# Altium footprint library IDlab.PcbLib: 5 footprints
Each footprint in its own frame and in the unit in brackets; x right, y up, seen from the top. Pads: shape width x height; smd on the part's side, far side on the other; paste and mask are expansions set on the pad; w line width, h text height; cw(c..) or ccw(c..) is an arc to the next point about the centre after c.
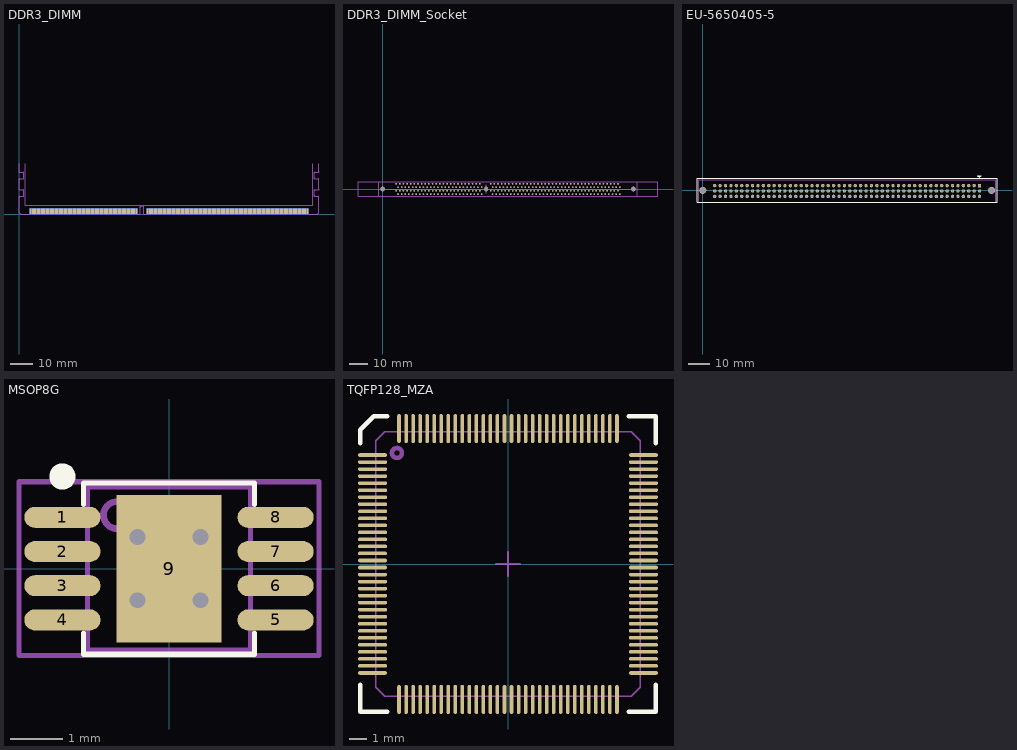
[diagram p0: the footprints below, top view; thin cyan lines are the x and y axes]

## DDR3_DIMM [mm] "DDR3 DIMM module pin setting and layout"
height 1.27
pads (240):
  rect 0.8x2.5 smd paste-5: 1(5.175,1.45) 2(6.175,1.45) 3(7.175,1.45) 4(8.175,1.45) 5(9.175,1.45) 6(10.175,1.45) 7(11.175,1.45) 8(12.175,1.45) 9(13.175,1.45) 10(14.175,1.45) 11(15.175,1.45) 12(16.175,1.45) 13(17.175,1.45) 14(18.175,1.45) 15(19.175,1.45) 16(20.175,1.45) 17(21.175,1.45) 18(22.175,1.45) 19(23.175,1.45) 20(24.175,1.45) 21(25.175,1.45) 22(26.175,1.45) 23(27.175,1.45) 24(28.175,1.45) 25(29.175,1.45) 26(30.175,1.45) 27(31.175,1.45) 28(32.175,1.45) 29(33.175,1.45) 30(34.175,1.45) 31(35.175,1.45) 32(36.175,1.45) 33(37.175,1.45) 34(38.175,1.45) 35(39.175,1.45) 36(40.175,1.45) 37(41.175,1.45) 38(42.175,1.45) 39(43.175,1.45) 40(44.175,1.45) 41(45.175,1.45) 42(46.175,1.45) 43(47.175,1.45) 44(48.175,1.45) 45(49.175,1.45) 46(50.175,1.45) 47(51.175,1.45) 48(52.175,1.45) 49(57.175,1.45) 50(58.175,1.45) 51(59.175,1.45) 52(60.175,1.45) 53(61.175,1.45) 54(62.175,1.45) 55(63.175,1.45) 56(64.175,1.45) 57(65.175,1.45) 58(66.175,1.45) 59(67.175,1.45) 60(68.175,1.45) 61(69.175,1.45) 62(70.175,1.45) 63(71.175,1.45) 64(72.175,1.45) 65(73.175,1.45) 66(74.175,1.45) 67(75.175,1.45) 68(76.175,1.45) 69(77.175,1.45) 70(78.175,1.45) 71(79.175,1.45) 72(80.175,1.45) 73(81.175,1.45) 74(82.175,1.45) 75(83.175,1.45) 76(84.175,1.45) 77(85.175,1.45) 78(86.175,1.45) 79(87.175,1.45) 80(88.175,1.45) 81(89.175,1.45) 82(90.175,1.45) 83(91.175,1.45) 84(92.175,1.45) 85(93.175,1.45) 86(94.175,1.45) 87(95.175,1.45) 88(96.175,1.45) 89(97.175,1.45) 90(98.175,1.45) 91(99.175,1.45) 92(100.175,1.45) 93(101.175,1.45) 94(102.175,1.45) 95(103.175,1.45) 96(104.175,1.45) 97(105.175,1.45) 98(106.175,1.45) 99(107.175,1.45) 100(108.175,1.45) 101(109.175,1.45) 102(110.175,1.45) 103(111.175,1.45) 104(112.175,1.45) 105(113.175,1.45) 106(114.175,1.45) 107(115.175,1.45) 108(116.175,1.45) 109(117.175,1.45) 110(118.175,1.45) 111(119.175,1.45) 112(120.175,1.45) 113(121.175,1.45) 114(122.175,1.45) 115(123.175,1.45) 116(124.175,1.45) 117(125.175,1.45) 118(126.175,1.45) 119(127.175,1.45) 120(128.175,1.45)
  rect 0.8x2.5 smd far side paste-5: 121(5.175,1.45) 122(6.175,1.45) 123(7.175,1.45) 124(8.175,1.45) 125(9.175,1.45) 126(10.175,1.45) 127(11.175,1.45) 128(12.175,1.45) 129(13.175,1.45) 130(14.175,1.45) 131(15.175,1.45) 132(16.175,1.45) 133(17.175,1.45) 134(18.175,1.45) 135(19.175,1.45) 136(20.175,1.45) 137(21.175,1.45) 138(22.175,1.45) 139(23.175,1.45) 140(24.175,1.45) 141(25.175,1.45) 142(26.175,1.45) 143(27.175,1.45) 144(28.175,1.45) 145(29.175,1.45) 146(30.175,1.45) 147(31.175,1.45) 148(32.175,1.45) 149(33.175,1.45) 150(34.175,1.45) 151(35.175,1.45) 152(36.175,1.45) 153(37.175,1.45) 154(38.175,1.45) 155(39.175,1.45) 156(40.175,1.45) 157(41.175,1.45) 158(42.175,1.45) 159(43.175,1.45) 160(44.175,1.45) 161(45.175,1.45) 162(46.175,1.45) 163(47.175,1.45) 164(48.175,1.45) 165(49.175,1.45) 166(50.175,1.45) 167(51.175,1.45) 168(52.175,1.45) 169(57.175,1.45) 170(58.175,1.45) 171(59.175,1.45) 172(60.175,1.45) 173(61.175,1.45) 174(62.175,1.45) 175(63.175,1.45) 176(64.175,1.45) 177(65.175,1.45) 178(66.175,1.45) 179(67.175,1.45) 180(68.175,1.45) 181(69.175,1.45) 182(70.175,1.45) 183(71.175,1.45) 184(72.175,1.45) 185(73.175,1.45) 186(74.175,1.45) 187(75.175,1.45) 188(76.175,1.45) 189(77.175,1.45) 190(78.175,1.45) 191(79.175,1.45) 192(80.175,1.45) 193(81.175,1.45) 194(82.175,1.45) 195(83.175,1.45) 196(84.175,1.45) 197(85.175,1.45) 198(86.175,1.45) 199(87.175,1.45) 200(88.175,1.45) 201(89.175,1.45) 202(90.175,1.45) 203(91.175,1.45) 204(92.175,1.45) 205(93.175,1.45) 206(94.175,1.45) 207(95.175,1.45) 208(96.175,1.45) 209(97.175,1.45) 210(98.175,1.45) 211(99.175,1.45) 212(100.175,1.45) 213(101.175,1.45) 214(102.175,1.45) 215(103.175,1.45) 216(104.175,1.45) 217(105.175,1.45) 218(106.175,1.45) 219(107.175,1.45) 220(108.175,1.45) 221(109.175,1.45) 222(110.175,1.45) 223(111.175,1.45) 224(112.175,1.45) 225(113.175,1.45) 226(114.175,1.45) 227(115.175,1.45) 228(116.175,1.45) 229(117.175,1.45) 230(118.175,1.45) 231(119.175,1.45) 232(120.175,1.45) 233(121.175,1.45) 234(122.175,1.45) 235(123.175,1.45) 236(124.175,1.45) 237(125.175,1.45) 238(126.175,1.45) 239(127.175,1.45) 240(128.175,1.45)
Top Layer:
  region: 4.975,0.2 5.375,0.2 5.375,0 4.975,0
  region: 5.975,0.2 6.375,0.2 6.375,0 5.975,0
  region: 6.975,0.2 7.375,0.2 7.375,0 6.975,0
  region: 7.975,0.2 8.375,0.2 8.375,0 7.975,0
  region: 8.975,0.2 9.375,0.2 9.375,0 8.975,0
  region: 9.975,0.2 10.375,0.2 10.375,0 9.975,0
  region: 15.975,0.2 16.375,0.2 16.375,0 15.975,0
  region: 14.975,0.2 15.375,0.2 15.375,0 14.975,0
  region: 13.975,0.2 14.375,0.2 14.375,0 13.975,0
  region: 12.975,0.2 13.375,0.2 13.375,0 12.975,0
  region: 11.975,0.2 12.375,0.2 12.375,0 11.975,0
  region: 10.975,0.2 11.375,0.2 11.375,0 10.975,0
  region: 21.975,0.2 22.375,0.2 22.375,0 21.975,0
  region: 20.975,0.2 21.375,0.2 21.375,0 20.975,0
  region: 19.975,0.2 20.375,0.2 20.375,0 19.975,0
  region: 18.975,0.2 19.375,0.2 19.375,0 18.975,0
  region: 17.975,0.2 18.375,0.2 18.375,0 17.975,0
  region: 16.975,0.2 17.375,0.2 17.375,0 16.975,0
  region: 27.975,0.2 28.375,0.2 28.375,0 27.975,0
  region: 26.975,0.2 27.375,0.2 27.375,0 26.975,0
  region: 25.975,0.2 26.375,0.2 26.375,0 25.975,0
  region: 24.975,0.2 25.375,0.2 25.375,0 24.975,0
  region: 23.975,0.2 24.375,0.2 24.375,0 23.975,0
  region: 22.975,0.2 23.375,0.2 23.375,0 22.975,0
  region: 33.975,0.2 34.375,0.2 34.375,0 33.975,0
  region: 32.975,0.2 33.375,0.2 33.375,0 32.975,0
  region: 31.975,0.2 32.375,0.2 32.375,0 31.975,0
  region: 30.975,0.2 31.375,0.2 31.375,0 30.975,0
  region: 29.975,0.2 30.375,0.2 30.375,0 29.975,0
  region: 28.975,0.2 29.375,0.2 29.375,0 28.975,0
  region: 39.975,0.2 40.375,0.2 40.375,0 39.975,0
  region: 38.975,0.2 39.375,0.2 39.375,0 38.975,0
  region: 37.975,0.2 38.375,0.2 38.375,0 37.975,0
  region: 36.975,0.2 37.375,0.2 37.375,0 36.975,0
  region: 35.975,0.2 36.375,0.2 36.375,0 35.975,0
  region: 34.975,0.2 35.375,0.2 35.375,0 34.975,0
  region: 45.975,0.2 46.375,0.2 46.375,0 45.975,0
  region: 44.975,0.2 45.375,0.2 45.375,0 44.975,0
  region: 43.975,0.2 44.375,0.2 44.375,0 43.975,0
  region: 42.975,0.2 43.375,0.2 43.375,0 42.975,0
  region: 41.975,0.2 42.375,0.2 42.375,0 41.975,0
  region: 40.975,0.2 41.375,0.2 41.375,0 40.975,0
  region: 51.975,0.2 52.375,0.2 52.375,0 51.975,0
  region: 50.975,0.2 51.375,0.2 51.375,0 50.975,0
  region: 49.975,0.2 50.375,0.2 50.375,0 49.975,0
  region: 48.975,0.2 49.375,0.2 49.375,0 48.975,0
  region: 47.975,0.2 48.375,0.2 48.375,0 47.975,0
  region: 46.975,0.2 47.375,0.2 47.375,0 46.975,0
  region: 61.975,0.2 62.375,0.2 62.375,0 61.975,0
  region: 60.975,0.2 61.375,0.2 61.375,0 60.975,0
  region: 59.975,0.2 60.375,0.2 60.375,0 59.975,0
  region: 58.975,0.2 59.375,0.2 59.375,0 58.975,0
  region: 57.975,0.2 58.375,0.2 58.375,0 57.975,0
  region: 56.975,0.2 57.375,0.2 57.375,0 56.975,0
  region: 67.975,0.2 68.375,0.2 68.375,0 67.975,0
  region: 66.975,0.2 67.375,0.2 67.375,0 66.975,0
  region: 65.975,0.2 66.375,0.2 66.375,0 65.975,0
  region: 64.975,0.2 65.375,0.2 65.375,0 64.975,0
  region: 63.975,0.2 64.375,0.2 64.375,0 63.975,0
  region: 62.975,0.2 63.375,0.2 63.375,0 62.975,0
  region: 73.975,0.2 74.375,0.2 74.375,0 73.975,0
  region: 72.975,0.2 73.375,0.2 73.375,0 72.975,0
  region: 71.975,0.2 72.375,0.2 72.375,0 71.975,0
  region: 70.975,0.2 71.375,0.2 71.375,0 70.975,0
  region: 69.975,0.2 70.375,0.2 70.375,0 69.975,0
  region: 68.975,0.2 69.375,0.2 69.375,0 68.975,0
  region: 79.975,0.2 80.375,0.2 80.375,0 79.975,0
  region: 78.975,0.2 79.375,0.2 79.375,0 78.975,0
  region: 77.975,0.2 78.375,0.2 78.375,0 77.975,0
  region: 76.975,0.2 77.375,0.2 77.375,0 76.975,0
  region: 75.975,0.2 76.375,0.2 76.375,0 75.975,0
  region: 74.975,0.2 75.375,0.2 75.375,0 74.975,0
  region: 85.975,0.2 86.375,0.2 86.375,0 85.975,0
  region: 84.975,0.2 85.375,0.2 85.375,0 84.975,0
  region: 83.975,0.2 84.375,0.2 84.375,0 83.975,0
  region: 82.975,0.2 83.375,0.2 83.375,0 82.975,0
  region: 81.975,0.2 82.375,0.2 82.375,0 81.975,0
  region: 80.975,0.2 81.375,0.2 81.375,0 80.975,0
  region: 91.975,0.2 92.375,0.2 92.375,0 91.975,0
  region: 90.975,0.2 91.375,0.2 91.375,0 90.975,0
  region: 89.975,0.2 90.375,0.2 90.375,0 89.975,0
  region: 88.975,0.2 89.375,0.2 89.375,0 88.975,0
  region: 87.975,0.2 88.375,0.2 88.375,0 87.975,0
  region: 86.975,0.2 87.375,0.2 87.375,0 86.975,0
  region: 97.975,0.2 98.375,0.2 98.375,0 97.975,0
  region: 96.975,0.2 97.375,0.2 97.375,0 96.975,0
  region: 95.975,0.2 96.375,0.2 96.375,0 95.975,0
  region: 94.975,0.2 95.375,0.2 95.375,0 94.975,0
  region: 93.975,0.2 94.375,0.2 94.375,0 93.975,0
  region: 92.975,0.2 93.375,0.2 93.375,0 92.975,0
  region: 103.975,0.2 104.375,0.2 104.375,0 103.975,0
  region: 102.975,0.2 103.375,0.2 103.375,0 102.975,0
  region: 101.975,0.2 102.375,0.2 102.375,0 101.975,0
  region: 100.975,0.2 101.375,0.2 101.375,0 100.975,0
  region: 99.975,0.2 100.375,0.2 100.375,0 99.975,0
  region: 98.975,0.2 99.375,0.2 99.375,0 98.975,0
  region: 109.975,0.2 110.375,0.2 110.375,0 109.975,0
  region: 108.975,0.2 109.375,0.2 109.375,0 108.975,0
  region: 107.975,0.2 108.375,0.2 108.375,0 107.975,0
  region: 106.975,0.2 107.375,0.2 107.375,0 106.975,0
  region: 105.975,0.2 106.375,0.2 106.375,0 105.975,0
  region: 104.975,0.2 105.375,0.2 105.375,0 104.975,0
  region: 115.975,0.2 116.375,0.2 116.375,0 115.975,0
  region: 114.975,0.2 115.375,0.2 115.375,0 114.975,0
  region: 113.975,0.2 114.375,0.2 114.375,0 113.975,0
  region: 112.975,0.2 113.375,0.2 113.375,0 112.975,0
  region: 111.975,0.2 112.375,0.2 112.375,0 111.975,0
  region: 110.975,0.2 111.375,0.2 111.375,0 110.975,0
  region: 121.975,0.2 122.375,0.2 122.375,0 121.975,0
  region: 120.975,0.2 121.375,0.2 121.375,0 120.975,0
  region: 119.975,0.2 120.375,0.2 120.375,0 119.975,0
  region: 118.975,0.2 119.375,0.2 119.375,0 118.975,0
  region: 117.975,0.2 118.375,0.2 118.375,0 117.975,0
  region: 116.975,0.2 117.375,0.2 117.375,0 116.975,0
  region: 127.975,0.2 128.375,0.2 128.375,0 127.975,0
  region: 126.975,0.2 127.375,0.2 127.375,0 126.975,0
  region: 125.975,0.2 126.375,0.2 126.375,0 125.975,0
  region: 124.975,0.2 125.375,0.2 125.375,0 124.975,0
  region: 123.975,0.2 124.375,0.2 124.375,0 123.975,0
  region: 122.975,0.2 123.375,0.2 123.375,0 122.975,0
Bottom Layer:
  region: 45.375,0.2 44.975,0.2 44.975,0 45.375,0
  region: 128.375,0.2 127.975,0.2 127.975,0 128.375,0
  region: 125.375,0.2 124.975,0.2 124.975,0 125.375,0
  region: 124.375,0.2 123.975,0.2 123.975,0 124.375,0
  region: 123.375,0.2 122.975,0.2 122.975,0 123.375,0
  region: 127.375,0.2 126.975,0.2 126.975,0 127.375,0
  region: 126.375,0.2 125.975,0.2 125.975,0 126.375,0
  region: 120.375,0.2 119.975,0.2 119.975,0 120.375,0
  region: 119.375,0.2 118.975,0.2 118.975,0 119.375,0
  region: 118.375,0.2 117.975,0.2 117.975,0 118.375,0
  region: 122.375,0.2 121.975,0.2 121.975,0 122.375,0
  region: 121.375,0.2 120.975,0.2 120.975,0 121.375,0
  region: 115.375,0.2 114.975,0.2 114.975,0 115.375,0
  region: 114.375,0.2 113.975,0.2 113.975,0 114.375,0
  region: 113.375,0.2 112.975,0.2 112.975,0 113.375,0
  region: 117.375,0.2 116.975,0.2 116.975,0 117.375,0
  region: 116.375,0.2 115.975,0.2 115.975,0 116.375,0
  region: 110.375,0.2 109.975,0.2 109.975,0 110.375,0
  region: 109.375,0.2 108.975,0.2 108.975,0 109.375,0
  region: 108.375,0.2 107.975,0.2 107.975,0 108.375,0
  region: 112.375,0.2 111.975,0.2 111.975,0 112.375,0
  region: 111.375,0.2 110.975,0.2 110.975,0 111.375,0
  region: 105.375,0.2 104.975,0.2 104.975,0 105.375,0
  region: 104.375,0.2 103.975,0.2 103.975,0 104.375,0
  region: 103.375,0.2 102.975,0.2 102.975,0 103.375,0
  region: 107.375,0.2 106.975,0.2 106.975,0 107.375,0
  region: 106.375,0.2 105.975,0.2 105.975,0 106.375,0
  region: 100.375,0.2 99.975,0.2 99.975,0 100.375,0
  region: 99.375,0.2 98.975,0.2 98.975,0 99.375,0
  region: 98.375,0.2 97.975,0.2 97.975,0 98.375,0
  region: 102.375,0.2 101.975,0.2 101.975,0 102.375,0
  region: 101.375,0.2 100.975,0.2 100.975,0 101.375,0
  region: 95.375,0.2 94.975,0.2 94.975,0 95.375,0
  region: 94.375,0.2 93.975,0.2 93.975,0 94.375,0
  region: 93.375,0.2 92.975,0.2 92.975,0 93.375,0
  region: 97.375,0.2 96.975,0.2 96.975,0 97.375,0
  region: 96.375,0.2 95.975,0.2 95.975,0 96.375,0
  region: 90.375,0.2 89.975,0.2 89.975,0 90.375,0
  region: 89.375,0.2 88.975,0.2 88.975,0 89.375,0
  region: 88.375,0.2 87.975,0.2 87.975,0 88.375,0
  region: 92.375,0.2 91.975,0.2 91.975,0 92.375,0
  region: 91.375,0.2 90.975,0.2 90.975,0 91.375,0
  region: 85.375,0.2 84.975,0.2 84.975,0 85.375,0
  region: 84.375,0.2 83.975,0.2 83.975,0 84.375,0
  region: 83.375,0.2 82.975,0.2 82.975,0 83.375,0
  region: 87.375,0.2 86.975,0.2 86.975,0 87.375,0
  region: 86.375,0.2 85.975,0.2 85.975,0 86.375,0
  region: 80.375,0.2 79.975,0.2 79.975,0 80.375,0
  region: 79.375,0.2 78.975,0.2 78.975,0 79.375,0
  region: 78.375,0.2 77.975,0.2 77.975,0 78.375,0
  region: 82.375,0.2 81.975,0.2 81.975,0 82.375,0
  region: 81.375,0.2 80.975,0.2 80.975,0 81.375,0
  region: 75.375,0.2 74.975,0.2 74.975,0 75.375,0
  region: 74.375,0.2 73.975,0.2 73.975,0 74.375,0
  region: 73.375,0.2 72.975,0.2 72.975,0 73.375,0
  region: 77.375,0.2 76.975,0.2 76.975,0 77.375,0
  region: 76.375,0.2 75.975,0.2 75.975,0 76.375,0
  region: 70.375,0.2 69.975,0.2 69.975,0 70.375,0
  region: 69.375,0.2 68.975,0.2 68.975,0 69.375,0
  region: 68.375,0.2 67.975,0.2 67.975,0 68.375,0
  region: 72.375,0.2 71.975,0.2 71.975,0 72.375,0
  region: 71.375,0.2 70.975,0.2 70.975,0 71.375,0
  region: 65.375,0.2 64.975,0.2 64.975,0 65.375,0
  region: 64.375,0.2 63.975,0.2 63.975,0 64.375,0
  region: 63.375,0.2 62.975,0.2 62.975,0 63.375,0
  region: 67.375,0.2 66.975,0.2 66.975,0 67.375,0
  region: 66.375,0.2 65.975,0.2 65.975,0 66.375,0
  region: 60.375,0.2 59.975,0.2 59.975,0 60.375,0
  region: 59.375,0.2 58.975,0.2 58.975,0 59.375,0
  region: 58.375,0.2 57.975,0.2 57.975,0 58.375,0
  region: 62.375,0.2 61.975,0.2 61.975,0 62.375,0
  region: 61.375,0.2 60.975,0.2 60.975,0 61.375,0
  region: 57.375,0.2 56.975,0.2 56.975,0 57.375,0
  region: 51.375,0.2 50.975,0.2 50.975,0 51.375,0
  region: 52.375,0.2 51.975,0.2 51.975,0 52.375,0
  region: 46.375,0.2 45.975,0.2 45.975,0 46.375,0
  region: 47.375,0.2 46.975,0.2 46.975,0 47.375,0
  region: 48.375,0.2 47.975,0.2 47.975,0 48.375,0
  region: 49.375,0.2 48.975,0.2 48.975,0 49.375,0
  region: 50.375,0.2 49.975,0.2 49.975,0 50.375,0
  region: 40.375,0.2 39.975,0.2 39.975,0 40.375,0
  region: 41.375,0.2 40.975,0.2 40.975,0 41.375,0
  region: 42.375,0.2 41.975,0.2 41.975,0 42.375,0
  region: 43.375,0.2 42.975,0.2 42.975,0 43.375,0
  region: 44.375,0.2 43.975,0.2 43.975,0 44.375,0
  region: 35.375,0.2 34.975,0.2 34.975,0 35.375,0
  region: 36.375,0.2 35.975,0.2 35.975,0 36.375,0
  region: 37.375,0.2 36.975,0.2 36.975,0 37.375,0
  region: 38.375,0.2 37.975,0.2 37.975,0 38.375,0
  region: 39.375,0.2 38.975,0.2 38.975,0 39.375,0
  region: 30.375,0.2 29.975,0.2 29.975,0 30.375,0
  region: 31.375,0.2 30.975,0.2 30.975,0 31.375,0
  region: 32.375,0.2 31.975,0.2 31.975,0 32.375,0
  region: 33.375,0.2 32.975,0.2 32.975,0 33.375,0
  region: 34.375,0.2 33.975,0.2 33.975,0 34.375,0
  region: 25.375,0.2 24.975,0.2 24.975,0 25.375,0
  region: 26.375,0.2 25.975,0.2 25.975,0 26.375,0
  region: 27.375,0.2 26.975,0.2 26.975,0 27.375,0
  region: 28.375,0.2 27.975,0.2 27.975,0 28.375,0
  region: 29.375,0.2 28.975,0.2 28.975,0 29.375,0
  region: 20.375,0.2 19.975,0.2 19.975,0 20.375,0
  region: 21.375,0.2 20.975,0.2 20.975,0 21.375,0
  region: 22.375,0.2 21.975,0.2 21.975,0 22.375,0
  region: 23.375,0.2 22.975,0.2 22.975,0 23.375,0
  region: 24.375,0.2 23.975,0.2 23.975,0 24.375,0
  region: 15.375,0.2 14.975,0.2 14.975,0 15.375,0
  region: 16.375,0.2 15.975,0.2 15.975,0 16.375,0
  region: 17.375,0.2 16.975,0.2 16.975,0 17.375,0
  region: 18.375,0.2 17.975,0.2 17.975,0 18.375,0
  region: 19.375,0.2 18.975,0.2 18.975,0 19.375,0
  region: 10.375,0.2 9.975,0.2 9.975,0 10.375,0
  region: 11.375,0.2 10.975,0.2 10.975,0 11.375,0
  region: 12.375,0.2 11.975,0.2 11.975,0 12.375,0
  region: 13.375,0.2 12.975,0.2 12.975,0 13.375,0
  region: 14.375,0.2 13.975,0.2 13.975,0 14.375,0
  region: 9.375,0.2 8.975,0.2 8.975,0 9.375,0
  region: 8.375,0.2 7.975,0.2 7.975,0 8.375,0
  region: 7.375,0.2 6.975,0.2 6.975,0 7.375,0
  region: 6.375,0.2 5.975,0.2 5.975,0 6.375,0
  region: 5.375,0.2 4.975,0.2 4.975,0 5.375,0
Mechanical 13:
  lines w0.1: 0,7.7 cw(c0.3,7.7) 0.3,8 ; 0,11.3 ccw(c0.3,11.3) 0.3,11 ; 0,15.5 cw(c0.3,15.5) 0.3,15.8 ; 0,19.1 ccw(c0.3,19.1) 0.3,18.8 ; 0,22.65 0,18.8 2.1,18.8 2.1,15.8 0,15.8 0,11 2.1,11 2.1,8 0,8 0,0.75 0.75,0 53.925,0 53.925,3.8 55.425,3.8 55.425,0 132.6,0 133.35,0.75 133.35,8 131.25,8 131.25,11 133.35,11 133.35,15.8 131.25,15.8 131.25,18.8 133.35,18.8 133.35,22.65 ; 1.6,8 ccw(c1.6,8.5) 2.1,8.5 ; 1.6,11 cw(c1.6,10.5) 2.1,10.5 ; 1.6,15.8 ccw(c1.6,16.3) 2.1,16.3 ; 1.6,18.8 cw(c1.6,18.3) 2.1,18.3 ; 53.725,0 ccw(c53.725,0.2) 53.925,0.2 ; 53.925,3.05 cw(c54.675,3.05) 54.675,3.8 cw(c54.675,3.05) 55.425,3.05 ; 55.425,0.2 ccw(c55.625,0.2) 55.625,0 ; 131.25,8.5 ccw(c131.75,8.5) 131.75,8 ; 131.25,10.5 cw(c131.75,10.5) 131.75,11 ; 131.25,16.3 ccw(c131.75,16.3) 131.75,15.8 ; 131.25,18.3 cw(c131.75,18.3) 131.75,18.8 ; 133.05,8 cw(c133.05,7.7) 133.35,7.7 ; 133.05,11 ccw(c133.05,11.3) 133.35,11.3 ; 133.05,15.8 cw(c133.05,15.5) 133.35,15.5 ; 133.05,18.8 ccw(c133.05,19.1) 133.35,19.1
Mechanical 15:
  lines w0.1: 2.8,22.6 2.8,4 130.55,4 130.55,22.6
  text "NO COMPONENT ZONE" at 76.175,1.45 h1.52
  text "NO COMPONENT ZONE" at 14.175,1.45 h1.52

## DDR3_DIMM_Socket [mm] "DDR3 DIMM PCB Socket with Latch"
height 23.1
pads (243):
  round 2.5 hole 2.5: 1(0,0) 1(138,0)
  round 0.9 hole 0.5: 1(7.5,-0.95) 2(8.5,-2.85) 3(9.5,-0.95) 4(10.5,-2.85) 5(11.5,-0.95) 6(12.5,-2.85) 7(13.5,-0.95) 8(14.5,-2.85) 9(15.5,-0.95) 10(16.5,-2.85) 11(17.5,-0.95) 12(18.5,-2.85) 13(19.5,-0.95) 14(20.5,-2.85) 15(21.5,-0.95) 16(22.5,-2.85) 17(23.5,-0.95) 18(24.5,-2.85) 19(25.5,-0.95) 20(26.5,-2.85) 21(27.5,-0.95) 22(28.5,-2.85) 23(29.5,-0.95) 24(30.5,-2.85) 25(31.5,-0.95) 26(32.5,-2.85) 27(33.5,-0.95) 28(34.5,-2.85) 29(35.5,-0.95) 30(36.5,-2.85) 31(37.5,-0.95) 32(38.5,-2.85) 33(39.5,-0.95) 34(40.5,-2.85) 35(41.5,-0.95) 36(42.5,-2.85) 37(43.5,-0.95) 38(44.5,-2.85) 39(45.5,-0.95) 40(46.5,-2.85) 41(47.5,-0.95) 42(48.5,-2.85) 43(49.5,-0.95) 44(50.5,-2.85) 45(51.5,-0.95) 46(52.5,-2.85) 47(53.5,-0.95) 48(54.5,-2.85) 49(59.5,-0.95) 50(60.5,-2.85) 51(61.5,-0.95) 52(62.5,-2.85) 53(63.5,-0.95) 54(64.5,-2.85) 55(65.5,-0.95) 56(66.5,-2.85) 57(67.5,-0.95) 58(68.5,-2.85) 59(69.5,-0.95) 60(70.5,-2.85) 61(71.5,-0.95) 62(72.5,-2.85) 63(73.5,-0.95) 64(74.5,-2.85) 65(75.5,-0.95) 66(76.5,-2.85) 67(77.5,-0.95) 68(78.5,-2.85) 69(79.5,-0.95) 70(80.5,-2.85) 71(81.5,-0.95) 72(82.5,-2.85) 73(83.5,-0.95) 74(84.5,-2.85) 75(85.5,-0.95) 76(86.5,-2.85) 77(87.5,-0.95) 78(88.5,-2.85) 79(89.5,-0.95) 80(90.5,-2.85) 81(91.5,-0.95) 82(92.5,-2.85) 83(93.5,-0.95) 84(94.5,-2.85) 85(95.5,-0.95) 86(96.5,-2.85) 87(97.5,-0.95) 88(98.5,-2.85) 89(99.5,-0.95) 90(100.5,-2.85) 91(101.5,-0.95) 92(102.5,-2.85) 93(103.5,-0.95) 94(104.5,-2.85) 95(105.5,-0.95) 96(106.5,-2.85) 97(107.5,-0.95) 98(108.5,-2.85) 99(109.5,-0.95) 100(110.5,-2.85) 101(111.5,-0.95) 102(112.5,-2.85) 103(113.5,-0.95) 104(114.5,-2.85) 105(115.5,-0.95) 106(116.5,-2.85) 107(117.5,-0.95) 108(118.5,-2.85) 109(119.5,-0.95) 110(120.5,-2.85) 111(121.5,-0.95) 112(122.5,-2.85) 113(123.5,-0.95) 114(124.5,-2.85) 115(125.5,-0.95) 116(126.5,-2.85) 117(127.5,-0.95) 118(128.5,-2.85) 119(129.5,-0.95) 120(130.5,-2.85) 121(7.5,2.85) 122(8.5,0.95) 123(9.5,2.85) 124(10.5,0.95) 125(11.5,2.85) 126(12.5,0.95) 127(13.5,2.85) 128(14.5,0.95) 129(15.5,2.85) 130(16.5,0.95) 131(17.5,2.85) 132(18.5,0.95) 133(19.5,2.85) 134(20.5,0.95) 135(21.5,2.85) 136(22.5,0.95) 137(23.5,2.85) 138(24.5,0.95) 139(25.5,2.85) 140(26.5,0.95) 141(27.5,2.85) 142(28.5,0.95) 143(29.5,2.85) 144(30.5,0.95) 145(31.5,2.85) 146(32.5,0.95) 147(33.5,2.85) 148(34.5,0.95) 149(35.5,2.85) 150(36.5,0.95) 151(37.5,2.85) 152(38.5,0.95) 153(39.5,2.85) 154(40.5,0.95) 155(41.5,2.85) 156(42.5,0.95) 157(43.5,2.85) 158(44.5,0.95) 159(45.5,2.85) 160(46.5,0.95) 161(47.5,2.85) 162(48.5,0.95) 163(49.5,2.85) 164(50.5,0.95) 165(51.5,2.85) 166(52.5,0.95) 167(53.5,2.85) 168(54.5,0.95) 169(59.5,2.85) 170(60.5,0.95) 171(61.5,2.85) 172(62.5,0.95) 173(63.5,2.85) 174(64.5,0.95) 175(65.5,2.85) 176(66.5,0.95) 177(67.5,2.85) 178(68.5,0.95) 179(69.5,2.85) 180(70.5,0.95) 181(71.5,2.85) 182(72.5,0.95) 183(73.5,2.85) 184(74.5,0.95) 185(75.5,2.85) 186(76.5,0.95) 187(77.5,2.85) 188(78.5,0.95) 189(79.5,2.85) 190(80.5,0.95) 191(81.5,2.85) 192(82.5,0.95) 193(83.5,2.85) 194(84.5,0.95) 195(85.5,2.85) 196(86.5,0.95) 197(87.5,2.85) 198(88.5,0.95) 199(89.5,2.85) 200(90.5,0.95) 201(91.5,2.85) 202(92.5,0.95) 203(93.5,2.85) 204(94.5,0.95) 205(95.5,2.85) 206(96.5,0.95) 207(97.5,2.85) 208(98.5,0.95) 209(99.5,2.85) 210(100.5,0.95) 211(101.5,2.85) 212(102.5,0.95) 213(103.5,2.85) 214(104.5,0.95) 215(105.5,2.85) 216(106.5,0.95) 217(107.5,2.85) 218(108.5,0.95) 219(109.5,2.85) 220(110.5,0.95) 221(111.5,2.85) 222(112.5,0.95) 223(113.5,2.85) 224(114.5,0.95) 225(115.5,2.85) 226(116.5,0.95) 227(117.5,2.85) 228(118.5,0.95) 229(119.5,2.85) 230(120.5,0.95) 231(121.5,2.85) 232(122.5,0.95) 233(123.5,2.85) 234(124.5,0.95) 235(125.5,2.85) 236(126.5,0.95) 237(127.5,2.85) 238(128.5,0.95) 239(129.5,2.85) 240(130.5,0.95)
  oval 1.8x2.5 hole 1.8 slot 2.5 at 90 deg: 1(57,0)
Mechanical 13:
  lines w0.1: -2,-3.875 140,-3.875 ; -2,-3.875 -13.5,-3.875 -13.5,3.875 -2,3.875 ; -2,-3.875 -2,3.875 ; -2,3.875 140,3.875 ; 140,-3.875 140,3.875 ; 140,-3.875 151.5,-3.875 151.5,3.875 140,3.875
Mechanical 15:
  lines w0.1: 0,0 138,0 ; 57,-2.4 57,0 57,2.4
  text "Latch" at 142.075,1.1 h1.52
  text "Area" at 142.05,-2.5 h1.52
  text "Area" at -12.5,-2.375 h1.52
  text "Latch" at -12.525,1.225 h1.52
3D body: height 22.79, standoff -3.44, extent -4.375,-3.745 142.425,3.795

## EU-5650405-5 [mil] "Eurocard PCB Socket 2.54mm"
height 452.76
pads (152):
  rect 62x62 / inner round 60 / far side rect 62x62 hole 42: A1(5121,88)
  round 62 / inner round 60 / far side round 62 hole 42: A2(5021,88) A3(4921,88) A4(4821,88) A5(4721,88) A6(4621,88) A7(4521,88) A8(4421,88) A9(4321,88) A10(4221,88) A11(4121,88) A12(4021,88) A13(3921,88) A14(3821,88) A15(3721,88) A16(3621,88) A17(3521,88) A18(3421,88) A19(3321,88) A20(3221,88) A21(3121,88) A22(3021,88) A23(2921,88) A24(2821,88) A25(2721,88) A26(2621,88) A27(2521,88) A28(2421,88) A29(2321,88) A30(2221,88) A31(2121,88) A32(2021,88) A33(1921,88) A34(1821,88) A35(1721,88) A36(1621,88) A37(1521,88) A38(1421,88) A39(1321,88) A40(1221,88) A41(1121,88) A42(1021,88) A43(921,88) A44(821,88) A45(721,88) A46(621,88) A47(521,88) A48(421,88) A49(321,88) A50(221,88) B1(5121,-12) B2(5021,-12) B3(4921,-12) B4(4821,-12) B5(4721,-12) B6(4621,-12) B7(4521,-12) B8(4421,-12) B9(4321,-12) B10(4221,-12) B11(4121,-12) B12(4021,-12) B13(3921,-12) B14(3821,-12) B15(3721,-12) B16(3621,-12) B17(3521,-12) B18(3421,-12) B19(3321,-12) B20(3221,-12) B21(3121,-12) B22(3021,-12) B23(2921,-12) B24(2821,-12) B25(2721,-12) B26(2621,-12) B27(2521,-12) B28(2421,-12) B29(2321,-12) B30(2221,-12) B31(2121,-12) B32(2021,-12) B33(1921,-12) B34(1821,-12) B35(1721,-12) B36(1621,-12) B37(1521,-12) B38(1421,-12) B39(1321,-12) B40(1221,-12) B41(1121,-12) B42(1021,-12) B43(921,-12) B44(821,-12) B45(721,-12) B46(621,-12) B47(521,-12) B48(421,-12) B49(321,-12) B50(221,-12) C1(5121,-112) C2(5021,-112) C3(4921,-112) C4(4821,-112) C5(4721,-112) C6(4621,-112) C7(4521,-112) C8(4421,-112) C9(4321,-112) C10(4221,-112) C11(4121,-112) C12(4021,-112) C13(3921,-112) C14(3821,-112) C15(3721,-112) C16(3621,-112) C17(3521,-112) C18(3421,-112) C19(3321,-112) C20(3221,-112) C21(3121,-112) C22(3021,-112) C23(2921,-112) C24(2821,-112) C25(2721,-112) C26(2621,-112) C27(2521,-112) C28(2421,-112) C29(2321,-112) C30(2221,-112) C31(2121,-112) C32(2021,-112) C33(1921,-112) C34(1821,-112) C35(1721,-112) C36(1621,-112) C37(1521,-112) C38(1421,-112) C39(1321,-112) C40(1221,-112) C41(1121,-112) C42(1021,-112) C43(921,-112) C44(821,-112) C45(721,-112) C46(621,-112) C47(521,-112) C48(421,-112) C49(321,-112) C50(221,-112)
  round 130 hole 110: M1(5343,0) M2(0,0)
Top Overlay:
  lines w5: -107,-222 5444,-222 5444,221 -107,221 -107,-222
  lines w10: 5080,272 5148,272 5114,238 5080,272
Mechanical 13:
  lines w3.94: -76.29,-220.47 5418.79,-220.47 5418.79,196.85 -76.29,196.85 -76.29,-220.47
3D body: height 453.24, standoff -129.44, extent -76.29,-220.47 5418.78,196.85

## MSOP8G [mm] "TSOP, 8-Leads, Body 3,1x3,1mm (max), Pitch 0,65mm, IPC High Density"
height 1.1
pads (9):
  oval 1.45x0.4 smd mask+0.076: 1(-2.025,0.975) 2(-2.025,0.325) 3(-2.025,-0.325) 4(-2.025,-0.975) 5(2.025,-0.975) 6(2.025,-0.325) 7(2.025,0.325) 8(2.025,0.975)
  rect 2x2.8 smd paste-5 mask-5: 9(0,0)
via -0.6,0.6 diameter 0.65 hole 0.3
via 0.6,0.6 diameter 0.65 hole 0.3
via -0.6,-0.6 diameter 0.65 hole 0.3
via 0.6,-0.6 diameter 0.65 hole 0.3
Top Overlay:
  circle w0.25: c-2.025,1.75 r0.125
  lines w0.102: -1.625,-1.225 -1.625,-1.626 1.625,-1.626 1.625,-1.225 ; -1.625,1.225 -1.625,1.626 1.625,1.626 1.625,1.225
Top Paste:
  region: -0.45,-1.4 -0.45,-0.925 -0.275,-0.75 0.275,-0.75 0.45,-0.925 0.45,-1.4
  region: 1,0.45 0.925,0.45 0.75,0.275 0.75,-0.275 0.925,-0.45 1,-0.45
  region: 1,1.4 0.75,1.4 0.75,0.925 0.925,0.75 1,0.75
  region: 1,-1.4 0.75,-1.4 0.75,-0.925 0.925,-0.75 1,-0.75
  region: -1,-1.4 -0.75,-1.4 -0.75,-0.925 -0.925,-0.75 -1,-0.75
  region: -0.45,1.4 -0.45,0.925 -0.275,0.75 0.275,0.75 0.45,0.925 0.45,1.4
  region: -1,1.4 -0.75,1.4 -0.75,0.925 -0.925,0.75 -1,0.75
  region: -1,0.45 -0.925,0.45 -0.75,0.275 -0.75,-0.275 -0.925,-0.45 -1,-0.45
  region: -0.45,0.275 -0.275,0.45 0.275,0.45 0.45,0.275 0.45,-0.275 0.275,-0.45 -0.275,-0.45 -0.45,-0.275
Top Solder:
  region: 1.025,1.425 0.6,1.425 0.6,0.931 0.727,0.906 0.834,0.834 0.906,0.727 0.931,0.6 0.906,0.473 0.834,0.366 0.727,0.294 0.6,0.269 0.6,0.275 0.6,0.269 0.473,0.294 0.366,0.366 0.294,0.473 0.269,0.6 0.275,0.6 0.269,0.6 0.294,0.727 0.366,0.834 0.473,0.906 0.6,0.931 0.6,0.925 0.6,1.425 0,1.425 -0.002,0 0.006,-0.019 0.025,-0.027 0.025,-0.025 1.025,-0.025
  region: 1.025,-1.425 0.6,-1.425 0.6,-0.931 0.727,-0.906 0.834,-0.834 0.906,-0.727 0.931,-0.6 0.906,-0.473 0.834,-0.366 0.727,-0.294 0.6,-0.269 0.6,-0.275 0.6,-0.269 0.473,-0.294 0.366,-0.366 0.294,-0.473 0.269,-0.6 0.275,-0.6 0.269,-0.6 0.294,-0.727 0.366,-0.834 0.473,-0.906 0.6,-0.931 0.6,-0.925 0.6,-1.425 0,-1.425 -0.002,0 0.006,0.019 0.025,0.027 0.025,0.025 1.025,0.025
  region: -1.025,-1.425 -0.6,-1.425 -0.6,-0.931 -0.727,-0.906 -0.834,-0.834 -0.906,-0.727 -0.931,-0.6 -0.906,-0.473 -0.834,-0.366 -0.727,-0.294 -0.6,-0.269 -0.6,-0.275 -0.6,-0.269 -0.473,-0.294 -0.366,-0.366 -0.294,-0.473 -0.269,-0.6 -0.275,-0.6 -0.269,-0.6 -0.294,-0.727 -0.366,-0.834 -0.473,-0.906 -0.6,-0.931 -0.6,-0.925 -0.6,-1.425 0,-1.425 0.002,0 -0.006,0.019 -0.025,0.027 -0.025,0.025 -1.025,0.025
  region: -1.025,1.425 -0.6,1.425 -0.6,0.931 -0.727,0.906 -0.834,0.834 -0.906,0.727 -0.931,0.6 -0.906,0.473 -0.834,0.366 -0.727,0.294 -0.6,0.269 -0.6,0.275 -0.6,0.269 -0.473,0.294 -0.366,0.366 -0.294,0.473 -0.269,0.6 -0.275,0.6 -0.269,0.6 -0.294,0.727 -0.366,0.834 -0.473,0.906 -0.6,0.931 -0.6,0.925 -0.6,1.425 0,1.425 0.002,0 -0.006,-0.019 -0.025,-0.027 -0.025,-0.025 -1.025,-0.025
Mechanical 13:
  circle w0.127: c-0.991,1.016 r0.255
  lines w0.1: -1.55,-1.55 -1.55,1.55 1.55,1.55 1.55,-1.55 -1.55,-1.55
Mechanical 15:
  lines w0.1: -0.5,0 0.5,0 ; 0,-0.5 0,0.5 ; -2.85,-1.65 -2.85,1.65 2.85,1.65 2.85,-1.65 -2.85,-1.65
3D body: height 1.12, standoff 1.1, extent -1.25,0.757 -0.73,1.275
3D body: height 1.1, standoff 0, extent -1.55,-1.55 1.55,1.55

## TQFP128_MZA [mil]
height 47.24
pads (128):
  oval 65x8 smd mask+2: 1(-302.5,243.35) 2(-302.5,227.65) 3(-302.5,211.95) 4(-302.5,196.25) 5(-302.5,180.55) 6(-302.5,164.85) 7(-302.5,149.15) 8(-302.5,133.45) 9(-302.5,117.75) 10(-302.5,102.05) 11(-302.5,86.35) 12(-302.5,70.65) 13(-302.5,54.95) 14(-302.5,39.25) 15(-302.5,23.55) 16(-302.5,7.85) 17(-302.5,-7.85) 18(-302.5,-23.55) 19(-302.5,-39.25) 20(-302.5,-54.95) 21(-302.5,-70.65) 22(-302.5,-86.35) 23(-302.5,-102.05) 24(-302.5,-117.75) 25(-302.5,-133.45) 26(-302.5,-149.15) 27(-302.5,-164.85) 28(-302.5,-180.55) 29(-302.5,-196.25) 30(-302.5,-211.95) 31(-302.5,-227.65) 32(-302.5,-243.35) 65(302.5,-243.35) 66(302.5,-227.65) 67(302.5,-211.95) 68(302.5,-196.25) 69(302.5,-180.55) 70(302.5,-164.85) 71(302.5,-149.15) 72(302.5,-133.45) 73(302.5,-117.75) 74(302.5,-102.05) 75(302.5,-86.35) 76(302.5,-70.65) 77(302.5,-54.95) 78(302.5,-39.25) 79(302.5,-23.55) 80(302.5,-7.85) 81(302.5,7.85) 82(302.5,23.55) 83(302.5,39.25) 84(302.5,54.95) 85(302.5,70.65) 86(302.5,86.35) 87(302.5,102.05) 88(302.5,117.75) 89(302.5,133.45) 90(302.5,149.15) 91(302.5,164.85) 92(302.5,180.55) 93(302.5,196.25) 94(302.5,211.95) 95(302.5,227.65) 96(302.5,243.35)
  oval 8x65 smd mask+2: 33(-243.35,-302.5) 34(-227.65,-302.5) 35(-211.95,-302.5) 36(-196.25,-302.5) 37(-180.55,-302.5) 38(-164.85,-302.5) 39(-149.15,-302.5) 40(-133.45,-302.5) 41(-117.75,-302.5) 42(-102.05,-302.5) 43(-86.35,-302.5) 44(-70.65,-302.5) 45(-54.95,-302.5) 46(-39.25,-302.5) 47(-23.55,-302.5) 48(-7.85,-302.5) 49(7.85,-302.5) 50(23.55,-302.5) 51(39.25,-302.5) 52(54.95,-302.5) 53(70.65,-302.5) 54(86.35,-302.5) 55(102.05,-302.5) 56(117.75,-302.5) 57(133.45,-302.5) 58(149.15,-302.5) 59(164.85,-302.5) 60(180.55,-302.5) 61(196.25,-302.5) 62(211.95,-302.5) 63(227.65,-302.5) 64(243.35,-302.5) 97(243.35,302.5) 98(227.65,302.5) 99(211.95,302.5) 100(196.25,302.5) 101(180.55,302.5) 102(164.85,302.5) 103(149.15,302.5) 104(133.45,302.5) 105(117.75,302.5) 106(102.05,302.5) 107(86.35,302.5) 108(70.65,302.5) 109(54.95,302.5) 110(39.25,302.5) 111(23.55,302.5) 112(7.85,302.5) 113(-7.85,302.5) 114(-23.55,302.5) 115(-39.25,302.5) 116(-54.95,302.5) 117(-70.65,302.5) 118(-86.35,302.5) 119(-102.05,302.5) 120(-117.75,302.5) 121(-133.45,302.5) 122(-149.15,302.5) 123(-164.85,302.5) 124(-180.55,302.5) 125(-196.25,302.5) 126(-211.95,302.5) 127(-227.65,302.5) 128(-243.35,302.5)
Top Overlay:
  lines w10: -330,-270 -330,-330 -270,-330 ; -330,270 -330,300 -300,330 -270,330 ; 270,-330 330,-330 330,-270 ; 270,330 330,330 330,270
Mechanical 13:
  circle w10: c-248.03,248.03 r11.14
  lines w3.94: -295.28,-275.59 -275.59,-295.28 275.59,-295.28 295.28,-275.59 295.28,275.59 275.59,295.28 -275.59,295.28 -295.28,275.59 -295.28,-275.59
Mechanical 15:
  lines w3.94: -27.56,0 27.56,0 ; 0,-27.56 0,27.56
3D body: height 47.24, standoff 0, extent -295.28,-295.28 295.28,295.28
3D body: height 47.64, standoff 47.24, extent -255.81,220.5 -216.59,259.79